# EAGLE library part PCB_BUSBAR (library EL_POTENCIA_LIBRERIA_VES2018)
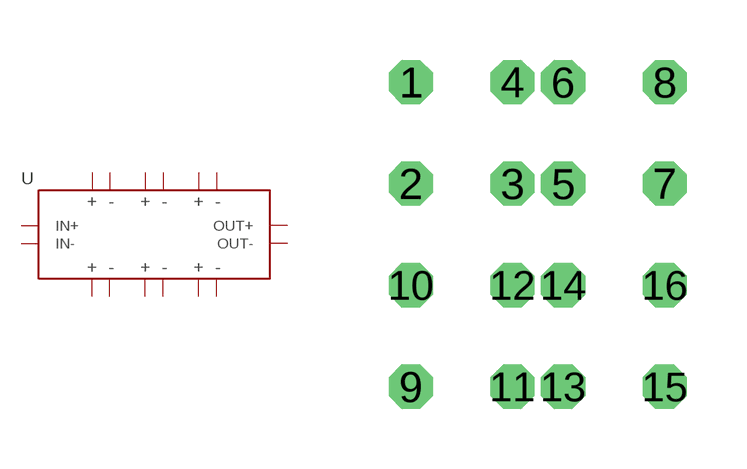
[diagram p13: symbol with the pads of PCB_BUSBAR; footprint PCB_BUSBAR]

Designator prefix -

## PCB_BUSBAR  [PCB_BUSBAR]
1  1
2  2
3  3
4  4
5  5
6  6
7  7
8  8
9  9
10  10
11  11
12  12
13  IN+
14  IN-
15  OUT+
16  OUT-

## Footprint PCB_BUSBAR (pad centres in mm)
drill 0.6 octagon: 1 -3.81,6.35; 2 -3.81,3.81; 3 -1.27,3.81; 4 -1.27,6.35; 5 0,3.81; 6 0,6.35; 7 2.54,3.81; 8 2.54,6.35; 9 -3.81,-1.27; 10 -3.81,1.27; 11 -1.27,-1.27; 12 -1.27,1.27; 13 0,-1.27; 14 0,1.27; 15 2.54,-1.27; 16 2.54,1.27